# Altium footprint library TO-205AF.PcbLib: 1 footprints
Each footprint in its own frame and in the unit in brackets; x right, y up, seen from the top. Pads: shape width x height; smd on the part's side, far side on the other; paste and mask are expansions set on the pad; w line width, h text height; cw(c..) or ccw(c..) is an arc to the next point about the centre after c.
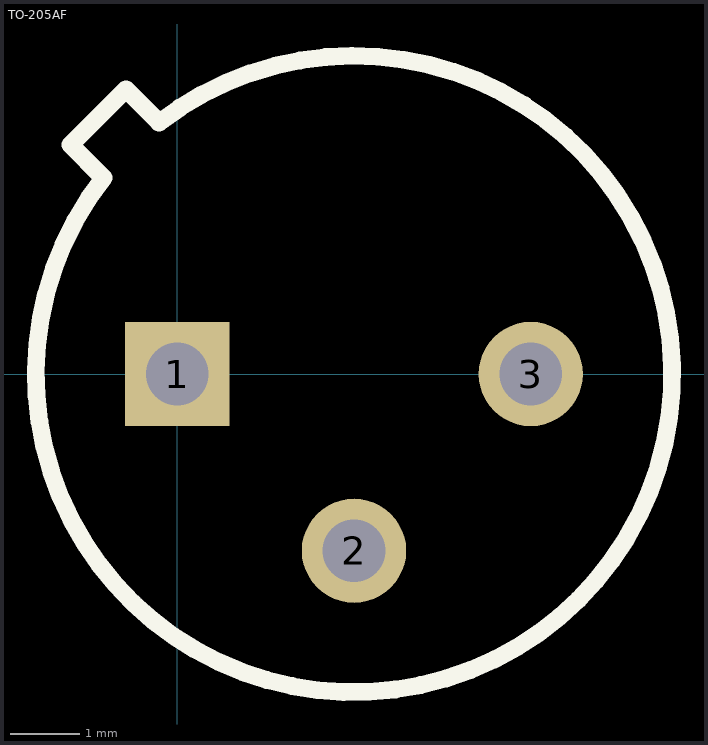
[diagram p0: the footprint, top view; thin cyan lines are the x and y axes]

## TO-205AF [mm]
pads (3):
  rect 1.5x1.5 hole 0.9: 1(0,0)
  round 1.5 hole 0.9: 2(2.54,-2.54) 3(5.08,0)
Top Overlay:
  lines w0.254: -1.08,2.838 -1.534,3.292 ; -1.058,2.821 ccw(c2.54,0) -0.263,3.612 ; -0.282,3.636 -0.736,4.09 -1.534,3.292 ; -1.534,3.292 -1.534,3.292